# Altium schematic symbol library DS1307.SchLib: 1 symbol
Pins are listed as number, name and electrical type; pins without a type are passive.

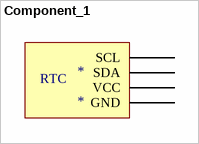
[diagram p0: symbol Component_1]

## Component_1
designator *
pins: 1 SCL, 1 SDA, 1 VCC, 1 GND
text: RTC